# Altium schematic symbol library PIC16LF722.Schlib: 1 symbol
Pins are listed as number, name and electrical type; pins without a type are passive.

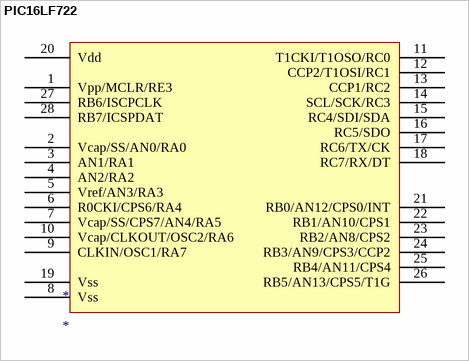
[diagram p0: symbol PIC16LF722]

## PIC16LF722
designator *
pins: 1 Vpp/MCLR/RE3, 2 Vcap/SS/AN0/RA0, 3 AN1/RA1, 4 AN2/RA2, 5 Vref/AN3/RA3, 6 R0CKI/CPS6/RA4, 7 Vcap/SS/CPS7/AN4/RA5, 8 Vss, 9 CLKIN/OSC1/RA7, 10 Vcap/CLKOUT/OSC2/RA6, 11 T1CKI/T1OSO/RC0, 12 CCP2/T1OSI/RC1, 13 CCP1/RC2, 14 SCL/SCK/RC3, 15 RC4/SDI/SDA, 16 RC5/SDO, 17 RC6/TX/CK, 18 RC7/RX/DT, 19 Vss, 20 Vdd, 21 RB0/AN12/CPS0/INT, 22 RB1/AN10/CPS1, 23 RB2/AN8/CPS2, 24 RB3/AN9/CPS3/CCP2, 25 RB4/AN11/CPS4, 26 RB5/AN13/CPS5/T1G, 27 RB6/ISCPCLK, 28 RB7/ICSPDAT